# EAGLE library part 8PINHEADER2.54MM (library ArduinoMegaShield2)
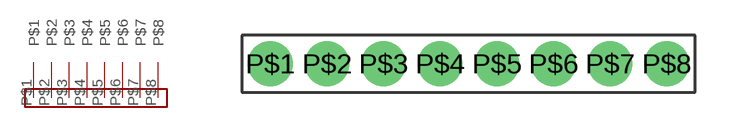
[diagram p1: symbol with the pads of 8PINHEADER2.54MM; footprint 8PINHEADER2.54MM]

Designator prefix -

## 8PINHEADER2.54MM  [8PINHEADER2.54MM]
P$1  P$1
P$2  P$2
P$3  P$3
P$4  P$4
P$5  P$5
P$6  P$6
P$7  P$7
P$8  P$8

## Footprint 8PINHEADER2.54MM (pad centres in mm)
drill 1.1 pad 2: P$1 -8.89,0; P$2 -6.35,0; P$3 -3.81,0; P$4 -1.27,0; P$5 1.27,0; P$6 3.81,0; P$7 6.35,0; P$8 8.89,0